# EAGLE library part 3X10_ROWS (library Connectors)
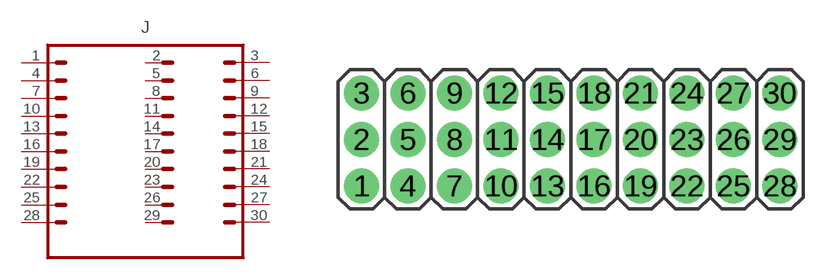
[diagram p9: symbol with the pads of 3X10; footprint 3X10]

Designator prefix J

## 3X10_ROWS  [3X10]
1  1  pas
2  2  pas
3  3  pas
4  4  pas
5  5  pas
6  6  pas
7  7  pas
8  8  pas
9  9  pas
10  10  pas
11  11  pas
12  12  pas
13  13  pas
14  14  pas
15  15  pas
16  16  pas
17  17  pas
18  18  pas
19  19  pas
20  20  pas
21  21  pas
22  22  pas
23  23  pas
24  24  pas
25  25  pas
26  26  pas
27  27  pas
28  28  pas
29  29  pas
30  30  pas

## Footprint 3X10 (pad centres in mm)
drill 1.05 pad 1.9: 1 0,0; 2 0,2.54; 3 0,5.08; 5 2.54,2.54; 6 2.54,5.08; 8 5.08,2.54; 9 5.08,5.08; 11 7.62,2.54; 12 7.62,5.08; 14 10.16,2.54; 15 10.16,5.08; 17 12.7,2.54; 18 12.7,5.08; 20 15.24,2.54; 21 15.24,5.08; 23 17.78,2.54; 24 17.78,5.08; 26 20.32,2.54; 27 20.32,5.08; 29 22.86,2.54; 30 22.86,5.08
drill 1.016 pad 1.9: 4 2.54,0; 7 5.08,0; 10 7.62,0; 13 10.16,0; 16 12.7,0; 19 15.24,0; 22 17.78,0; 25 20.32,0; 28 22.86,0